# Altium footprint library urover.PCBLIB: 175 footprints (part 5 of 11)
Each footprint in its own frame and in the unit in brackets; x right, y up, seen from the top. Pads: shape width x height; smd on the part's side, far side on the other; paste and mask are expansions set on the pad; w line width, h text height; cw(c..) or ccw(c..) is an arc to the next point about the centre after c.
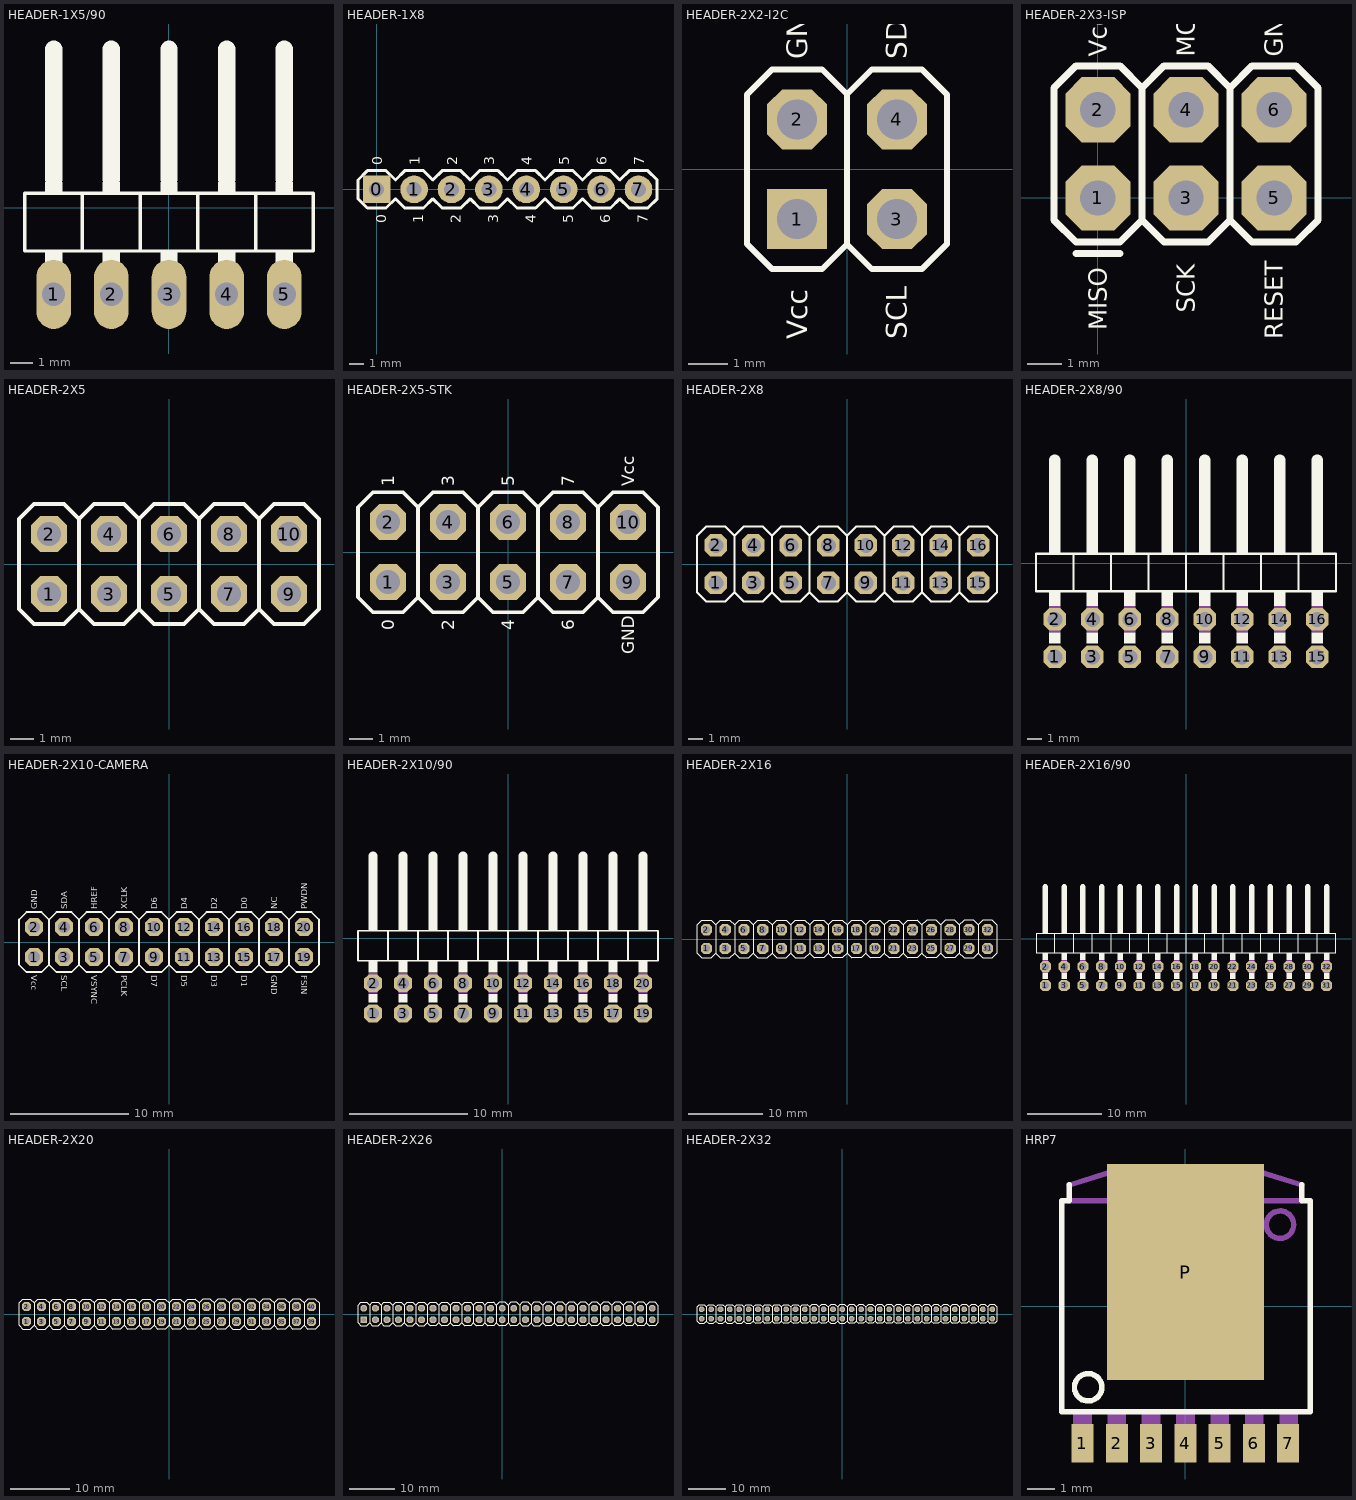
[diagram p4: the footprints below, top view; thin cyan lines are the x and y axes]

## HEADER-1X5/90 [mil]
pads (5):
  oval 60x120 hole 40: 1(-200,-150) 2(-100,-150) 3(0,-150) 4(100,-150) 5(200,-150)
Top Overlay:
  rectangle: -215,25 -185,45
  rectangle: -115,25 -85,45
  rectangle: -15,25 15,45
  rectangle: 85,25 115,45
  rectangle: 185,25 215,45
  rectangle: -215,-115 -185,-75
  rectangle: -115,-115 -85,-75
  rectangle: -15,-115 15,-75
  rectangle: 85,-115 115,-75
  rectangle: 185,-115 215,-75
  lines w6: -150,-75 -250,-75 -250,25 -150,25 ; -150,-75 -150,25 ; -150,-75 -50,-75 ; -150,25 -50,25 ; -50,-75 -50,25 ; -50,-75 50,-75 ; -50,25 50,25 ; 50,-75 50,25 ; 50,-75 150,-75 ; 50,25 150,25 ; 150,-75 150,25 ; 150,-75 250,-75 250,25 150,25
  lines w30: -200,50 -200,275 ; -100,50 -100,275 ; 0,50 0,275 ; 100,50 100,275 ; 200,50 200,275

## HEADER-1X8 [mil]
pads (8):
  rect 74x74 hole 40: 0(0,0)
  round 74 hole 40: 1(100,0) 2(200,0) 3(300,0) 4(400,0) 5(500,0) 6(600,0) 7(700,0)
Top Overlay:
  lines w8: -50,-25 -50,25 -25,50 25,50 50,25 75,50 125,50 150,25 175,50 225,50 250,25 275,50 325,50 350,25 375,50 425,50 450,25 475,50 525,50 550,25 575,50 625,50 650,25 675,50 725,50 750,25 750,-25 725,-50 675,-50 650,-25 625,-50 575,-50 550,-25 525,-50 475,-50 450,-25 425,-50 375,-50 350,-25 325,-50 275,-50 250,-25 225,-50 175,-50 150,-25 125,-50 75,-50 50,-25 25,-50 -25,-50 -50,-25
  text "0" at 25,-90 h27.2
  text "0" at 15,65 h27.2
  text "1" at 125,-90 h27.2
  text "1" at 115,65 h27.2
  text "2" at 225,-90 h27.2
  text "2" at 215,65 h27.2
  text "3" at 325,-90 h27.2
  text "3" at 315,65 h27.2
  text "4" at 425,-90 h27.2
  text "4" at 415,65 h27.2
  text "5" at 525,-90 h27.2
  text "5" at 515,65 h27.2
  text "6" at 625,-90 h27.2
  text "6" at 615,65 h27.2
  text "7" at 725,-90 h27.2
  text "7" at 715,65 h27.2
Mechanical 16:
  rectangle: 590,-10 610,10
  rectangle: 490,-10 510,10
  rectangle: 390,-10 410,10
  rectangle: 290,-10 310,10
  rectangle: 190,-10 210,10
  rectangle: 90,-10 110,10
  rectangle: -10,-10 10,10
  rectangle: 690,-10 710,10

## HEADER-2X2-I2C [mil]
pads (4):
  rect 60x60 hole 40: 1(-50,-50)
  oct 60x60 hole 40: 2(-50,50) 3(50,-50) 4(50,50)
Top Overlay:
  lines w6: 0,-75 -25,-100 -75,-100 -100,-75 -100,75 -75,100 -25,100 0,75 ; 0,-75 25,-100 75,-100 100,-75 100,75 75,100 25,100 0,75 ; 0,-75 0,75
  text "GND" at -40,110 h20.4
  text "Vcc" at -40,-170 h20.4
  text "SCL" at 60,-170 h20.4
  text "SDA" at 60,110 h20.4
Mechanical 16:
  rectangle: -60,-60 -40,-40
  rectangle: -60,40 -40,60
  rectangle: 40,40 60,60
  rectangle: 40,-60 60,-40

## HEADER-2X3-ISP [mil]
pads (6):
  oct 74x74 hole 40: 1(0,0) 2(0,100) 3(100,0) 4(100,100) 5(200,0) 6(200,100)
Top Overlay:
  lines w8: -25,-63.19 25,-63.19 ; 50,-25 50,125 ; 50,-25 75,-50 125,-50 150,-25 ; 50,-25 25,-50 -25,-50 -50,-25 -50,125 -25,150 25,150 50,125 ; 50,125 75,150 125,150 150,125 ; 150,-25 150,125 ; 150,-25 175,-50 225,-50 250,-25 250,125 225,150 175,150 150,125
  text "GND" at 210,160 h20.4
  text "RESET" at 210,-160 h20.4
  text "MOSI" at 110,160 h20.4
  text "SCK" at 110,-130 h20.4
  text "Vcc" at 10,160 h20.4
  text "MISO" at 10,-150 h20.4
Mechanical 16:
  rectangle: 190,-10 210,10
  rectangle: 190,90 210,110
  rectangle: 90,-10 110,10
  rectangle: 90,90 110,110
  rectangle: -10,90 10,110
  rectangle: -10,-10 10,10

## HEADER-2X5 [mil]
pads (10):
  oct 60x60 hole 40: 1(-200,-50) 2(-200,50) 3(-100,-50) 4(-100,50) 5(0,-50) 6(0,50) 7(100,-50) 8(100,50) 9(200,-50) 10(200,50)
Top Overlay:
  lines w6: -150,-75 -175,-100 -225,-100 -250,-75 -250,75 -225,100 -175,100 -150,75 ; -150,-75 -125,-100 -75,-100 -50,-75 ; -150,-75 -150,75 ; -150,75 -125,100 -75,100 -50,75 ; -50,-75 -25,-100 25,-100 50,-75 ; -50,-75 -50,75 ; -50,75 -25,100 25,100 50,75 ; 50,-75 75,-100 125,-100 150,-75 ; 50,-75 50,75 ; 50,75 75,100 125,100 150,75 ; 150,-75 150,75 ; 150,-75 175,-100 225,-100 250,-75 250,75 225,100 175,100 150,75
Mechanical 16:
  rectangle: -210,-60 -190,-40
  rectangle: -210,40 -190,60
  rectangle: -110,40 -90,60
  rectangle: -110,-60 -90,-40
  rectangle: -10,40 10,60
  rectangle: -10,-60 10,-40
  rectangle: 90,40 110,60
  rectangle: 90,-60 110,-40
  rectangle: 190,40 210,60
  rectangle: 190,-60 210,-40

## HEADER-2X5-STK [mil]
pads (10):
  oct 60x60 hole 40: 1(-200,-50) 2(-200,50) 3(-100,-50) 4(-100,50) 5(0,-50) 6(0,50) 7(100,-50) 8(100,50) 9(200,-50) 10(200,50)
Top Overlay:
  lines w6: -150,-75 -175,-100 -225,-100 -250,-75 -250,75 -225,100 -175,100 -150,75 ; -150,-75 -125,-100 -75,-100 -50,-75 ; -150,-75 -150,75 ; -150,75 -125,100 -75,100 -50,75 ; -50,-75 -25,-100 25,-100 50,-75 ; -50,-75 -50,75 ; -50,75 -25,100 25,100 50,75 ; 50,-75 75,-100 125,-100 150,-75 ; 50,-75 50,75 ; 50,75 75,100 125,100 150,75 ; 150,-75 150,75 ; 150,-75 175,-100 225,-100 250,-75 250,75 225,100 175,100 150,75
  text "0" at -190,-130 h20.4
  text "1" at -190,110 h20.4
  text "2" at -90,-130 h20.4
  text "3" at -90,110 h20.4
  text "4" at 10,-130 h20.4
  text "5" at 10,110 h20.4
  text "6" at 110,-130 h20.4
  text "7" at 110,110 h20.4
  text "GND" at 210,-170 h20.4
  text "Vcc" at 210,110 h20.4
Mechanical 16:
  rectangle: -210,-60 -190,-40
  rectangle: -210,40 -190,60
  rectangle: -110,40 -90,60
  rectangle: -110,-60 -90,-40
  rectangle: -10,40 10,60
  rectangle: -10,-60 10,-40
  rectangle: 90,40 110,60
  rectangle: 90,-60 110,-40
  rectangle: 190,40 210,60
  rectangle: 190,-60 210,-40

## HEADER-2X8 [mil]
pads (16):
  oct 60x60 hole 40: 1(-350,-50) 2(-350,50) 3(-250,-50) 4(-250,50) 5(-150,-50) 6(-150,50) 7(-50,-50) 8(-50,50) 9(50,-50) 10(50,50) 11(150,-50) 12(150,50) 13(250,-50) 14(250,50) 15(350,-50) 16(350,50)
Top Overlay:
  lines w6: -300,-75 -325,-100 -375,-100 -400,-75 -400,75 -375,100 -325,100 -300,75 ; -300,-75 -275,-100 -225,-100 -200,-75 ; -300,-75 -300,75 ; -300,75 -275,100 -225,100 -200,75 ; -200,-75 -175,-100 -125,-100 -100,-75 ; -200,-75 -200,75 ; -200,75 -175,100 -125,100 -100,75 ; -100,-75 -75,-100 -25,-100 0,-75 ; -100,-75 -100,75 ; -100,75 -75,100 -25,100 0,75 ; 0,-75 25,-100 75,-100 100,-75 ; 0,-75 0,75 ; 0,75 25,100 75,100 100,75 ; 100,-75 125,-100 175,-100 200,-75 ; 100,-75 100,75 ; 100,75 125,100 175,100 200,75 ; 200,-75 225,-100 275,-100 300,-75 ; 200,-75 200,75 ; 200,75 225,100 275,100 300,75 ; 300,-75 300,75 ; 300,-75 325,-100 375,-100 400,-75 400,75 375,100 325,100 300,75
Mechanical 16:
  rectangle: -360,-60 -340,-40
  rectangle: -360,40 -340,60
  rectangle: -260,40 -240,60
  rectangle: -260,-60 -240,-40
  rectangle: -160,40 -140,60
  rectangle: -160,-60 -140,-40
  rectangle: -60,40 -40,60
  rectangle: 40,40 60,60
  rectangle: 140,40 160,60
  rectangle: -60,-60 -40,-40
  rectangle: 40,-60 60,-40
  rectangle: 140,-60 160,-40
  rectangle: 240,40 260,60
  rectangle: 240,-60 260,-40
  rectangle: 340,40 360,60
  rectangle: 340,-60 360,-40

## HEADER-2X8/90 [mil]
pads (16):
  oct 60x60 hole 40: 1(-350,-250) 2(-350,-150) 3(-250,-250) 4(-250,-150) 5(-150,-250) 6(-150,-150) 7(-50,-250) 8(-50,-150) 9(50,-250) 10(50,-150) 11(150,-250) 12(150,-150) 13(250,-250) 14(250,-150) 15(350,-250) 16(350,-150)
Top Overlay:
  rectangle: -365,25 -335,45
  rectangle: -265,25 -235,45
  rectangle: -165,25 -135,45
  rectangle: -65,25 -35,45
  rectangle: 35,25 65,45
  rectangle: 135,25 165,45
  rectangle: 235,25 265,45
  rectangle: 335,25 365,45
  rectangle: -365,-115 -335,-75
  rectangle: -265,-115 -235,-75
  rectangle: -365,-215 -335,-185
  rectangle: -265,-215 -235,-185
  rectangle: -165,-115 -135,-75
  rectangle: -65,-115 -35,-75
  rectangle: -165,-215 -135,-185
  rectangle: -65,-215 -35,-185
  rectangle: 35,-115 65,-75
  rectangle: 135,-115 165,-75
  rectangle: 35,-215 65,-185
  rectangle: 135,-215 165,-185
  rectangle: 235,-115 265,-75
  rectangle: 335,-115 365,-75
  rectangle: 235,-215 265,-185
  rectangle: 335,-215 365,-185
  lines w6: -300,-75 -400,-75 -400,25 -300,25 ; -300,-75 -300,25 ; -300,-75 -200,-75 ; -300,25 -200,25 ; -200,-75 -200,25 ; -200,-75 -100,-75 ; -200,25 -100,25 ; -100,-75 -100,25 ; -100,-75 0,-75 ; -100,25 0,25 ; 0,-75 0,25 ; 0,-75 100,-75 ; 0,25 100,25 ; 100,-75 100,25 ; 100,-75 200,-75 ; 100,25 200,25 ; 200,-75 200,25 ; 200,-75 300,-75 ; 200,25 300,25 ; 300,-75 300,25 ; 300,-75 400,-75 400,25 300,25
  lines w30: -350,50 -350,275 ; -250,50 -250,275 ; -150,50 -150,275 ; -50,50 -50,275 ; 50,50 50,275 ; 150,50 150,275 ; 250,50 250,275 ; 350,50 350,275
Mechanical 16:
  rectangle: -365,-185 -335,-115
  rectangle: -265,-185 -235,-115
  rectangle: -165,-185 -135,-115
  rectangle: -65,-185 -35,-115
  rectangle: 35,-185 65,-115
  rectangle: 135,-185 165,-115
  rectangle: 235,-185 265,-115
  rectangle: 335,-185 365,-115

## HEADER-2X10-CAMERA [mil]
pads (20):
  oct 60x60 hole 40: 1(-450,-50) 2(-450,50) 3(-350,-50) 4(-350,50) 5(-250,-50) 6(-250,50) 7(-150,-50) 8(-150,50) 9(-50,-50) 10(-50,50) 11(50,-50) 12(50,50) 13(150,-50) 14(150,50) 15(250,-50) 16(250,50) 17(350,-50) 18(350,50) 19(450,-50) 20(450,50)
Top Overlay:
  lines w6: -400,-75 -425,-100 -475,-100 -500,-75 -500,75 -475,100 -425,100 -400,75 ; -400,-75 -375,-100 -325,-100 -300,-75 ; -400,-75 -400,75 ; -400,75 -375,100 -325,100 -300,75 ; -300,-75 -275,-100 -225,-100 -200,-75 ; -300,-75 -300,75 ; -300,75 -275,100 -225,100 -200,75 ; -200,-75 -175,-100 -125,-100 -100,-75 ; -200,-75 -200,75 ; -200,75 -175,100 -125,100 -100,75 ; -100,-75 -75,-100 -25,-100 0,-75 ; -100,-75 -100,75 ; -100,75 -75,100 -25,100 0,75 ; 0,-75 25,-100 75,-100 100,-75 ; 0,-75 0,75 ; 0,75 25,100 75,100 100,75 ; 100,-75 125,-100 175,-100 200,-75 ; 100,-75 100,75 ; 100,75 125,100 175,100 200,75 ; 200,-75 225,-100 275,-100 300,-75 ; 200,-75 200,75 ; 200,75 225,100 275,100 300,75 ; 300,-75 325,-100 375,-100 400,-75 ; 300,-75 300,75 ; 300,75 325,100 375,100 400,75 ; 400,-75 400,75 ; 400,-75 425,-100 475,-100 500,-75 500,75 475,100 425,100 400,75
  text "Vcc" at -460,-110 h20.4
  text "GND" at -440,110 h20.4
  text "SCL" at -360,-110 h20.4
  text "VSYNC" at -260,-110 h20.4
  text "PCLK" at -160,-110 h20.4
  text "D7" at -60,-110 h20.4
  text "D5" at 40,-110 h20.4
  text "D3" at 140,-110 h20.4
  text "D1" at 240,-110 h20.4
  text "GND" at 340,-110 h20.4
  text "FSIN" at 440,-110 h20.4
  text "SDA" at -340,110 h20.4
  text "HREF" at -240,110 h20.4
  text "XCLK" at -140,110 h20.4
  text "D6" at -40,110 h20.4
  text "D4" at 60,110 h20.4
  text "D2" at 160,110 h20.4
  text "D0" at 260,110 h20.4
  text "NC" at 360,110 h20.4
  text "PWDN" at 460,110 h20.4
Mechanical 16:
  rectangle: -460,-60 -440,-40
  rectangle: -460,40 -440,60
  rectangle: -360,40 -340,60
  rectangle: -360,-60 -340,-40
  rectangle: -260,40 -240,60
  rectangle: -260,-60 -240,-40
  rectangle: -160,40 -140,60
  rectangle: -60,40 -40,60
  rectangle: 40,40 60,60
  rectangle: -160,-60 -140,-40
  rectangle: -60,-60 -40,-40
  rectangle: 40,-60 60,-40
  rectangle: 140,40 160,60
  rectangle: 140,-60 160,-40
  rectangle: 240,40 260,60
  rectangle: 240,-60 260,-40
  rectangle: 340,40 360,60
  rectangle: 340,-60 360,-40
  rectangle: 440,40 460,60
  rectangle: 440,-60 460,-40

## HEADER-2X10/90 [mil]
pads (20):
  oct 60x60 hole 40: 1(-450,-250) 2(-450,-150) 3(-350,-250) 4(-350,-150) 5(-250,-250) 6(-250,-150) 7(-150,-250) 8(-150,-150) 9(-50,-250) 10(-50,-150) 11(50,-250) 12(50,-150) 13(150,-250) 14(150,-150) 15(250,-250) 16(250,-150) 17(350,-250) 18(350,-150) 19(450,-250) 20(450,-150)
Top Overlay:
  rectangle: -465,25 -435,45
  rectangle: -365,25 -335,45
  rectangle: -265,25 -235,45
  rectangle: -165,25 -135,45
  rectangle: -65,25 -35,45
  rectangle: 35,25 65,45
  rectangle: 135,25 165,45
  rectangle: 235,25 265,45
  rectangle: 335,25 365,45
  rectangle: 435,25 465,45
  rectangle: -465,-115 -435,-75
  rectangle: -365,-115 -335,-75
  rectangle: -465,-215 -435,-185
  rectangle: -365,-215 -335,-185
  rectangle: -265,-115 -235,-75
  rectangle: -165,-115 -135,-75
  rectangle: -265,-215 -235,-185
  rectangle: -165,-215 -135,-185
  rectangle: -65,-115 -35,-75
  rectangle: 35,-115 65,-75
  rectangle: -65,-215 -35,-185
  rectangle: 35,-215 65,-185
  rectangle: 135,-115 165,-75
  rectangle: 235,-115 265,-75
  rectangle: 135,-215 165,-185
  rectangle: 235,-215 265,-185
  rectangle: 335,-115 365,-75
  rectangle: 435,-115 465,-75
  rectangle: 335,-215 365,-185
  rectangle: 435,-215 465,-185
  lines w6: -400,-75 -500,-75 -500,25 -400,25 ; -400,-75 -400,25 ; -400,-75 -300,-75 ; -400,25 -300,25 ; -300,-75 -300,25 ; -300,-75 -200,-75 ; -300,25 -200,25 ; -200,-75 -200,25 ; -200,-75 -100,-75 ; -200,25 -100,25 ; -100,-75 -100,25 ; -100,-75 0,-75 ; -100,25 0,25 ; 0,-75 0,25 ; 0,-75 100,-75 ; 0,25 100,25 ; 100,-75 100,25 ; 100,-75 200,-75 ; 100,25 200,25 ; 200,-75 200,25 ; 200,-75 300,-75 ; 200,25 300,25 ; 300,-75 300,25 ; 300,-75 400,-75 ; 300,25 400,25 ; 400,-75 400,25 ; 400,-75 500,-75 500,25 400,25
  lines w30: -450,50 -450,275 ; -350,50 -350,275 ; -250,50 -250,275 ; -150,50 -150,275 ; -50,50 -50,275 ; 50,50 50,275 ; 150,50 150,275 ; 250,50 250,275 ; 350,50 350,275 ; 450,50 450,275
Mechanical 16:
  rectangle: -465,-185 -435,-115
  rectangle: -365,-185 -335,-115
  rectangle: -265,-185 -235,-115
  rectangle: -165,-185 -135,-115
  rectangle: -65,-185 -35,-115
  rectangle: 35,-185 65,-115
  rectangle: 135,-185 165,-115
  rectangle: 235,-185 265,-115
  rectangle: 335,-185 365,-115
  rectangle: 435,-185 465,-115

## HEADER-2X16 [mil]
pads (32):
  oct 60x60 hole 40: 1(-750,-50) 2(-750,50) 3(-650,-50) 4(-650,50) 5(-550,-50) 6(-550,50) 7(-450,-50) 8(-450,50) 9(-350,-50) 10(-350,50) 11(-250,-50) 12(-250,50) 13(-150,-50) 14(-150,50) 15(-50,-50) 16(-50,50) 17(50,-50) 18(50,50) 19(150,-50) 20(150,50) 21(250,-50) 22(250,50) 23(350,-50) 24(350,50) 25(450,-50) 26(450,50) 27(550,-50) 28(550,50) 29(650,-50) 30(650,50) 31(750,-50) 32(750,50)
Top Overlay:
  lines w6: -700,-75 -725,-100 -775,-100 -800,-75 -800,75 -775,100 -725,100 -700,75 ; -700,-75 -675,-100 -625,-100 -600,-75 ; -700,-75 -700,75 ; -700,75 -675,100 -625,100 -600,75 ; -600,-75 -575,-100 -525,-100 -500,-75 ; -600,-75 -600,75 ; -600,75 -575,100 -525,100 -500,75 ; -500,-75 -475,-100 -425,-100 -400,-75 ; -500,-75 -500,75 ; -500,75 -475,100 -425,100 -400,75 ; -400,-75 -375,-100 -325,-100 -300,-75 ; -400,-75 -400,75 ; -400,75 -375,100 -325,100 -300,75 ; -300,-75 -275,-100 -225,-100 -200,-75 ; -300,-75 -300,75 ; -300,75 -275,100 -225,100 -200,75 ; -200,-75 -175,-100 -125,-100 -100,-75 ; -200,-75 -200,75 ; -200,75 -175,100 -125,100 -100,75 ; -100,-75 -75,-100 -25,-100 0,-75 ; -100,-75 -100,75 ; -100,75 -75,100 -25,100 0,75 ; 0,-75 25,-100 75,-100 100,-75 ; 0,-75 0,75 ; 0,75 25,100 75,100 100,75 ; 100,-75 125,-100 175,-100 200,-75 ; 100,-75 100,75 ; 100,75 125,100 175,100 200,75 ; 200,-75 225,-100 275,-100 300,-75 ; 200,-75 200,75 ; 200,75 225,100 275,100 300,75 ; 300,-75 325,-100 375,-100 400,-75 ; 300,-75 300,75 ; 300,75 325,100 375,100 400,75 ; 400,-75 425,-100 475,-100 500,-75 ; 400,-75 400,75 ; 400,75 425,100 475,100 500,75 ; 500,-75 525,-100 575,-100 600,-75 ; 500,-75 500,75 ; 500,75 525,100 575,100 600,75 ; 600,-75 625,-100 675,-100 700,-75 ; 600,-75 600,75 ; 600,75 625,100 675,100 700,75 ; 700,-75 725,-100 775,-100 800,-75 800,75 775,100 725,100 700,75 ; 700,-75 700,75
Mechanical 16:
  rectangle: -760,-60 -740,-40
  rectangle: -760,40 -740,60
  rectangle: -660,40 -640,60
  rectangle: -660,-60 -640,-40
  rectangle: -560,40 -540,60
  rectangle: -560,-60 -540,-40
  rectangle: -460,40 -440,60
  rectangle: -360,40 -340,60
  rectangle: -260,40 -240,60
  rectangle: -460,-60 -440,-40
  rectangle: -360,-60 -340,-40
  rectangle: -260,-60 -240,-40
  rectangle: -160,40 -140,60
  rectangle: -160,-60 -140,-40
  rectangle: -60,40 -40,60
  rectangle: -60,-60 -40,-40
  rectangle: 40,40 60,60
  rectangle: 40,-60 60,-40
  rectangle: 140,40 160,60
  rectangle: 140,-60 160,-40
  rectangle: 240,40 260,60
  rectangle: 240,-60 260,-40
  rectangle: 340,40 360,60
  rectangle: 340,-60 360,-40
  rectangle: 440,40 460,60
  rectangle: 440,-60 460,-40
  rectangle: 540,40 560,60
  rectangle: 540,-60 560,-40
  rectangle: 640,40 660,60
  rectangle: 640,-60 660,-40
  rectangle: 740,40 760,60
  rectangle: 740,-60 760,-40

## HEADER-2X16/90 [mil]
pads (32):
  oct 60x60 hole 40: 1(-750,-250) 2(-750,-150) 3(-650,-250) 4(-650,-150) 5(-550,-250) 6(-550,-150) 7(-450,-250) 8(-450,-150) 9(-350,-250) 10(-350,-150) 11(-250,-250) 12(-250,-150) 13(-150,-250) 14(-150,-150) 15(-50,-250) 16(-50,-150) 17(50,-250) 18(50,-150) 19(150,-250) 20(150,-150) 21(250,-250) 22(250,-150) 23(350,-250) 24(350,-150) 25(450,-250) 26(450,-150) 27(550,-250) 28(550,-150) 29(650,-250) 30(650,-150) 31(750,-250) 32(750,-150)
Top Overlay:
  rectangle: -765,25 -735,45
  rectangle: -665,25 -635,45
  rectangle: -565,25 -535,45
  rectangle: -465,25 -435,45
  rectangle: -365,25 -335,45
  rectangle: -265,25 -235,45
  rectangle: -165,25 -135,45
  rectangle: -65,25 -35,45
  rectangle: 35,25 65,45
  rectangle: 135,25 165,45
  rectangle: 235,25 265,45
  rectangle: 335,25 365,45
  rectangle: 435,25 465,45
  rectangle: 535,25 565,45
  rectangle: 635,25 665,45
  rectangle: 735,25 765,45
  rectangle: -765,-115 -735,-75
  rectangle: -665,-115 -635,-75
  rectangle: -765,-215 -735,-185
  rectangle: -665,-215 -635,-185
  rectangle: -565,-115 -535,-75
  rectangle: -465,-115 -435,-75
  rectangle: -565,-215 -535,-185
  rectangle: -465,-215 -435,-185
  rectangle: -365,-115 -335,-75
  rectangle: -365,-215 -335,-185
  rectangle: -265,-115 -235,-75
  rectangle: -165,-115 -135,-75
  rectangle: -265,-215 -235,-185
  rectangle: -165,-215 -135,-185
  rectangle: -65,-115 -35,-75
  rectangle: 35,-115 65,-75
  rectangle: -65,-215 -35,-185
  rectangle: 35,-215 65,-185
  rectangle: 135,-115 165,-75
  rectangle: 135,-215 165,-185
  rectangle: 235,-115 265,-75
  rectangle: 335,-115 365,-75
  rectangle: 235,-215 265,-185
  rectangle: 335,-215 365,-185
  rectangle: 435,-115 465,-75
  rectangle: 535,-115 565,-75
  rectangle: 435,-215 465,-185
  rectangle: 535,-215 565,-185
  rectangle: 635,-115 665,-75
  rectangle: 635,-215 665,-185
  rectangle: 735,-115 765,-75
  rectangle: 735,-215 765,-185
  lines w6: -700,-75 -800,-75 -800,25 -700,25 ; -700,-75 -700,25 ; -700,-75 -600,-75 ; -700,25 -600,25 ; -600,-75 -600,25 ; -600,-75 -500,-75 ; -600,25 -500,25 ; -500,-75 -500,25 ; -500,-75 -400,-75 ; -500,25 -400,25 ; -400,-75 -400,25 ; -400,-75 -300,-75 ; -400,25 -300,25 ; -300,-75 -300,25 ; -300,-75 -200,-75 ; -300,25 -200,25 ; -200,-75 -200,25 ; -200,-75 -100,-75 ; -200,25 -100,25 ; -100,-75 -100,25 ; -100,-75 0,-75 ; -100,25 0,25 ; 0,-75 0,25 ; 0,-75 100,-75 ; 0,25 100,25 ; 100,-75 100,25 ; 100,-75 200,-75 ; 100,25 200,25 ; 200,-75 200,25 ; 200,-75 300,-75 ; 200,25 300,25 ; 300,-75 300,25 ; 300,-75 400,-75 ; 300,25 400,25 ; 400,-75 400,25 ; 400,-75 500,-75 ; 400,25 500,25 ; 500,-75 500,25 ; 500,-75 600,-75 ; 500,25 600,25 ; 600,-75 600,25 ; 600,-75 700,-75 ; 600,25 700,25 ; 700,-75 700,25 ; 700,-75 800,-75 800,25 700,25
  lines w30: -750,50 -750,275 ; -650,50 -650,275 ; -550,50 -550,275 ; -450,50 -450,275 ; -350,50 -350,275 ; -250,50 -250,275 ; -150,50 -150,275 ; -50,50 -50,275 ; 50,50 50,275 ; 150,50 150,275 ; 250,50 250,275 ; 350,50 350,275 ; 450,50 450,275 ; 550,50 550,275 ; 650,50 650,275 ; 750,50 750,275
Mechanical 16:
  rectangle: -765,-185 -735,-115
  rectangle: -665,-185 -635,-115
  rectangle: -565,-185 -535,-115
  rectangle: -465,-185 -435,-115
  rectangle: -365,-185 -335,-115
  rectangle: -265,-185 -235,-115
  rectangle: -165,-185 -135,-115
  rectangle: -65,-185 -35,-115
  rectangle: 35,-185 65,-115
  rectangle: 135,-185 165,-115
  rectangle: 235,-185 265,-115
  rectangle: 335,-185 365,-115
  rectangle: 435,-185 465,-115
  rectangle: 535,-185 565,-115
  rectangle: 635,-185 665,-115
  rectangle: 735,-185 765,-115

## HEADER-2X20 [mil]
pads (40):
  oct 60x60 hole 40: 1(-950,-50) 2(-950,50) 3(-850,-50) 4(-850,50) 5(-750,-50) 6(-750,50) 7(-650,-50) 8(-650,50) 9(-550,-50) 10(-550,50) 11(-450,-50) 12(-450,50) 13(-350,-50) 14(-350,50) 15(-250,-50) 16(-250,50) 17(-150,-50) 18(-150,50) 19(-50,-50) 20(-50,50) 21(50,-50) 22(50,50) 23(150,-50) 24(150,50) 25(250,-50) 26(250,50) 27(350,-50) 28(350,50) 29(450,-50) 30(450,50) 31(550,-50) 32(550,50) 33(650,-50) 34(650,50) 35(750,-50) 36(750,50) 37(850,-50) 38(850,50) 39(950,-50) 40(950,50)
Top Overlay:
  lines w6: -900,-75 -925,-100 -975,-100 -1000,-75 -1000,75 -975,100 -925,100 -900,75 ; -900,-75 -875,-100 -825,-100 -800,-75 ; -900,-75 -900,75 ; -900,75 -875,100 -825,100 -800,75 ; -800,-75 -775,-100 -725,-100 -700,-75 ; -800,-75 -800,75 ; -800,75 -775,100 -725,100 -700,75 ; -700,-75 -675,-100 -625,-100 -600,-75 ; -700,-75 -700,75 ; -700,75 -675,100 -625,100 -600,75 ; -600,-75 -575,-100 -525,-100 -500,-75 ; -600,-75 -600,75 ; -600,75 -575,100 -525,100 -500,75 ; -500,-75 -475,-100 -425,-100 -400,-75 ; -500,-75 -500,75 ; -500,75 -475,100 -425,100 -400,75 ; -400,-75 -375,-100 -325,-100 -300,-75 ; -400,-75 -400,75 ; -400,75 -375,100 -325,100 -300,75 ; -300,-75 -275,-100 -225,-100 -200,-75 ; -300,-75 -300,75 ; -300,75 -275,100 -225,100 -200,75 ; -200,-75 -175,-100 -125,-100 -100,-75 ; -200,-75 -200,75 ; -200,75 -175,100 -125,100 -100,75 ; -100,-75 -75,-100 -25,-100 0,-75 ; -100,-75 -100,75 ; -100,75 -75,100 -25,100 0,75 ; 0,-75 25,-100 75,-100 100,-75 ; 0,-75 0,75 ; 0,75 25,100 75,100 100,75 ; 100,-75 125,-100 175,-100 200,-75 ; 100,-75 100,75 ; 100,75 125,100 175,100 200,75 ; 200,-75 225,-100 275,-100 300,-75 ; 200,-75 200,75 ; 200,75 225,100 275,100 300,75 ; 300,-75 325,-100 375,-100 400,-75 ; 300,-75 300,75 ; 300,75 325,100 375,100 400,75 ; 400,-75 425,-100 475,-100 500,-75 ; 400,-75 400,75 ; 400,75 425,100 475,100 500,75 ; 500,-75 525,-100 575,-100 600,-75 ; 500,-75 500,75 ; 500,75 525,100 575,100 600,75 ; 600,-75 625,-100 675,-100 700,-75 ; 600,-75 600,75 ; 600,75 625,100 675,100 700,75 ; 700,-75 725,-100 775,-100 800,-75 ; 700,-75 700,75 ; 700,75 725,100 775,100 800,75 ; 800,-75 825,-100 875,-100 900,-75 ; 800,-75 800,75 ; 800,75 825,100 875,100 900,75 ; 900,-75 900,75 ; 900,-75 925,-100 975,-100 1000,-75 1000,75 975,100 925,100 900,75
Mechanical 16:
  rectangle: -960,-60 -940,-40
  rectangle: -960,40 -940,60
  rectangle: -860,40 -840,60
  rectangle: -860,-60 -840,-40
  rectangle: -760,40 -740,60
  rectangle: -760,-60 -740,-40
  rectangle: -660,40 -640,60
  rectangle: -560,40 -540,60
  rectangle: -460,40 -440,60
  rectangle: -660,-60 -640,-40
  rectangle: -560,-60 -540,-40
  rectangle: -460,-60 -440,-40
  rectangle: -360,40 -340,60
  rectangle: -360,-60 -340,-40
  rectangle: -260,40 -240,60
  rectangle: -260,-60 -240,-40
  rectangle: -160,40 -140,60
  rectangle: -160,-60 -140,-40
  rectangle: -60,40 -40,60
  rectangle: -60,-60 -40,-40
  rectangle: 40,40 60,60
  rectangle: 40,-60 60,-40
  rectangle: 140,40 160,60
  rectangle: 140,-60 160,-40
  rectangle: 240,40 260,60
  rectangle: 240,-60 260,-40
  rectangle: 340,40 360,60
  rectangle: 340,-60 360,-40
  rectangle: 440,40 460,60
  rectangle: 440,-60 460,-40
  rectangle: 540,40 560,60
  rectangle: 540,-60 560,-40
  rectangle: 640,40 660,60
  rectangle: 640,-60 660,-40
  rectangle: 740,40 760,60
  rectangle: 740,-60 760,-40
  rectangle: 840,40 860,60
  rectangle: 840,-60 860,-40
  rectangle: 940,40 960,60
  rectangle: 940,-60 960,-40

## HEADER-2X26 [mil]
pads (52):
  rect 60x60 hole 40: 1(-1200,-50)
  oct 60x60 hole 40: 2(-1200,50) 3(-1100,-50) 4(-1100,50) 5(-1000,-50) 6(-1000,50) 7(-900,-50) 8(-900,50) 9(-800,-50) 10(-800,50) 11(-700,-50) 12(-700,50) 13(-600,-50) 14(-600,50) 15(-500,-50) 16(-500,50) 17(-400,-50) 18(-400,50) 19(-300,-50) 20(-300,50) 21(-200,-50) 22(-200,50) 23(-100,-50) 24(-100,50) 25(0,-50) 26(0,50) 27(100,-50) 28(100,50) 29(200,-50) 30(200,50) 31(300,-50) 32(300,50) 33(400,-50) 34(400,50) 35(500,-50) 36(500,50) 37(600,-50) 38(600,50) 39(700,-50) 40(700,50) 41(800,-50) 42(800,50) 43(900,-50) 44(900,50) 45(1000,-50) 46(1000,50) 47(1100,-50) 48(1100,50) 49(1200,-50) 50(1200,50) 51(1300,-50) 52(1300,50)
Top Overlay:
  drawing of 183 lines, arcs and shapes, not listed
Mechanical 16:
  rectangle: -1210,-60 -1190,-40
  rectangle: -1210,40 -1190,60
  rectangle: -1110,40 -1090,60
  rectangle: -1110,-60 -1090,-40
  rectangle: -1010,40 -990,60
  rectangle: -1010,-60 -990,-40
  rectangle: -910,40 -890,60
  rectangle: -810,40 -790,60
  rectangle: -710,40 -690,60
  rectangle: -910,-60 -890,-40
  rectangle: -810,-60 -790,-40
  rectangle: -710,-60 -690,-40
  rectangle: -610,40 -590,60
  rectangle: -610,-60 -590,-40
  rectangle: -510,40 -490,60
  rectangle: -510,-60 -490,-40
  rectangle: -410,40 -390,60
  rectangle: -410,-60 -390,-40
  rectangle: -310,40 -290,60
  rectangle: -310,-60 -290,-40
  rectangle: -210,40 -190,60
  rectangle: -210,-60 -190,-40
  rectangle: -110,40 -90,60
  rectangle: -110,-60 -90,-40
  rectangle: -10,40 10,60
  rectangle: -10,-60 10,-40
  rectangle: 90,40 110,60
  rectangle: 90,-60 110,-40
  rectangle: 190,40 210,60
  rectangle: 190,-60 210,-40
  rectangle: 290,40 310,60
  rectangle: 290,-60 310,-40
  rectangle: 390,40 410,60
  rectangle: 390,-60 410,-40
  rectangle: 490,40 510,60
  rectangle: 490,-60 510,-40
  rectangle: 590,40 610,60
  rectangle: 590,-60 610,-40
  rectangle: 690,40 710,60
  rectangle: 690,-60 710,-40
  rectangle: 790,40 810,60
  rectangle: 890,40 910,60
  rectangle: 990,40 1010,60
  rectangle: 1090,40 1110,60
  rectangle: 1190,40 1210,60
  rectangle: 1190,-60 1210,-40
  rectangle: 1090,-60 1110,-40
  rectangle: 990,-60 1010,-40
  rectangle: 890,-60 910,-40
  rectangle: 790,-60 810,-40
  rectangle: 1290,40 1310,60
  rectangle: 1290,-60 1310,-40

## HEADER-2X32 [mil]
pads (64):
  oct 60x60 hole 40: 1(-1500,-50) 2(-1500,50) 3(-1400,-50) 4(-1400,50) 5(-1300,-50) 6(-1300,50) 7(-1200,-50) 8(-1200,50) 9(-1100,-50) 10(-1100,50) 11(-1000,-50) 12(-1000,50) 13(-900,-50) 14(-900,50) 15(-800,-50) 16(-800,50) 17(-700,-50) 18(-700,50) 19(-600,-50) 20(-600,50) 21(-500,-50) 22(-500,50) 23(-400,-50) 24(-400,50) 25(-300,-50) 26(-300,50) 27(-200,-50) 28(-200,50) 29(-100,-50) 30(-100,50) 31(0,-50) 32(0,50) 33(100,-50) 34(100,50) 35(200,-50) 36(200,50) 37(300,-50) 38(300,50) 39(400,-50) 40(400,50) 41(500,-50) 42(500,50) 43(600,-50) 44(600,50) 45(700,-50) 46(700,50) 47(800,-50) 48(800,50) 49(900,-50) 50(900,50) 51(1000,-50) 52(1000,50) 53(1100,-50) 54(1100,50) 55(1200,-50) 56(1200,50) 57(1300,-50) 58(1300,50) 59(1400,-50) 60(1400,50) 61(1500,-50) 62(1500,50) 63(1600,-50) 64(1600,50)
Top Overlay:
  drawing of 225 lines, arcs and shapes, not listed
Mechanical 16:
  rectangle: -1510,-60 -1490,-40
  rectangle: -1510,40 -1490,60
  rectangle: -1410,40 -1390,60
  rectangle: -1410,-60 -1390,-40
  rectangle: -1310,40 -1290,60
  rectangle: -1310,-60 -1290,-40
  rectangle: -1210,40 -1190,60
  rectangle: -1110,40 -1090,60
  rectangle: -1010,40 -990,60
  rectangle: -1210,-60 -1190,-40
  rectangle: -1110,-60 -1090,-40
  rectangle: -1010,-60 -990,-40
  rectangle: -910,40 -890,60
  rectangle: -910,-60 -890,-40
  rectangle: -810,40 -790,60
  rectangle: -810,-60 -790,-40
  rectangle: -710,40 -690,60
  rectangle: -710,-60 -690,-40
  rectangle: -610,40 -590,60
  rectangle: -610,-60 -590,-40
  rectangle: -510,40 -490,60
  rectangle: -510,-60 -490,-40
  rectangle: -410,40 -390,60
  rectangle: -410,-60 -390,-40
  rectangle: -310,40 -290,60
  rectangle: -310,-60 -290,-40
  rectangle: -210,40 -190,60
  rectangle: -210,-60 -190,-40
  rectangle: -110,40 -90,60
  rectangle: -110,-60 -90,-40
  rectangle: -10,40 10,60
  rectangle: -10,-60 10,-40
  rectangle: 90,40 110,60
  rectangle: 90,-60 110,-40
  rectangle: 190,40 210,60
  rectangle: 190,-60 210,-40
  rectangle: 290,40 310,60
  rectangle: 290,-60 310,-40
  rectangle: 390,40 410,60
  rectangle: 390,-60 410,-40
  rectangle: 490,40 510,60
  rectangle: 490,-60 510,-40
  rectangle: 590,40 610,60
  rectangle: 590,-60 610,-40
  rectangle: 690,40 710,60
  rectangle: 690,-60 710,-40
  rectangle: 790,40 810,60
  rectangle: 790,-60 810,-40
  rectangle: 890,40 910,60
  rectangle: 890,-60 910,-40
  rectangle: 990,40 1010,60
  rectangle: 990,-60 1010,-40
  rectangle: 1090,40 1110,60
  rectangle: 1090,-60 1110,-40
  rectangle: 1190,40 1210,60
  rectangle: 1190,-60 1210,-40
  rectangle: 1290,40 1310,60
  rectangle: 1290,-60 1310,-40
  rectangle: 1390,40 1410,60
  rectangle: 1390,-60 1410,-40
  rectangle: 1490,40 1510,60
  rectangle: 1490,-60 1510,-40
  rectangle: 1590,40 1610,60
  rectangle: 1590,-60 1610,-40

## HRP7 [mil]
pads (8):
  rect 32x56 smd: 1(-150,-200) 2(-100,-200) 3(-50,-200) 4(0,-200) 5(50,-200) 6(100,-200) 7(150,-200)
  rect 229x315 smd: P(0,50)
Top Overlay:
  circle w8: c-141.73,-118.11 r20
  lines w8: -169.29,177 -169.29,154 -180.12,154 -180.12,-153.54 182,-153.54 182,154 170,154 170,177
Top Solder:
  rectangle: -168,-230 -132,-170
  rectangle: -118,-230 -82,-170
  rectangle: -68,-230 -32,-170
  rectangle: -18,-230 18,-170
  rectangle: 32,-230 68,-170
  rectangle: 82,-230 118,-170
  rectangle: 132,-230 168,-170
Mechanical 16:
  circle w8: c138,119 r20
  rectangle: -13.78,-217.52 14,-154.53
  rectangle: -63.78,-217.52 -36.22,-154.53
  rectangle: -113.78,-217.52 -86.22,-154.53
  rectangle: -163.78,-217.52 -136.22,-154.53
  rectangle: 37,-217.52 64,-154.53
  rectangle: 87,-217.52 114,-154.53
  rectangle: 137,-217.52 164,-154.53
  lines w8: -169.29,154 170,154 ; -169.29,177 -114.17,194 115,194 170,177